# EAGLE library part 292303-1 (library SamacSys_Parts)
USB type A r/a thru-hole socket Source: Datasheet <https://datasheet.datasheetarchive.com/originals/distributors/Datasheets_SAMA/3e4c4de204b167d1a9250e6de251b7b8.pdf>
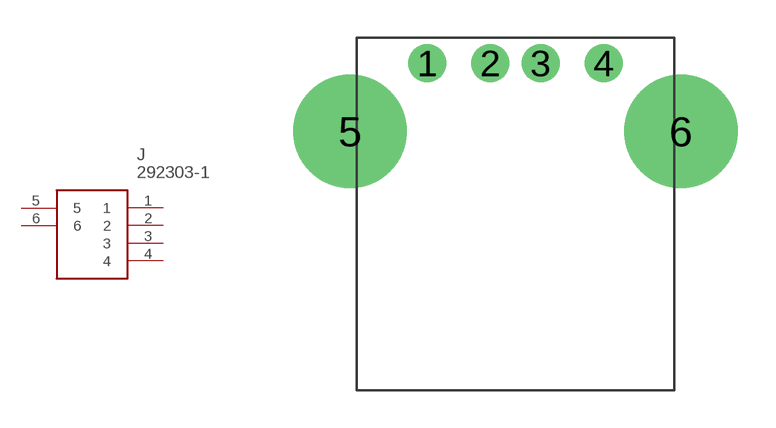
[diagram p101: symbol with the pads of TECONN-4POS-USB; footprint TECONN-4POS-USB]

Designator prefix J

## 292303-1 (DESCRIPTION: USB type A r/a thru-hole socket; HEIGHT: mm; MANUFACTURER_NAME: TE Connectivity; MANUFACTURER_PART_NUMBER: 292303-1; MOUSER_PART_NUMBER: 571-292303-1; MOUSER_PRICE-STOCK: https://www.mouser.co.uk/ProductDetail/TE-Connectivity/292303-1?qs=G%2F5vCLrg9vx2OsUPTgR%2F%252BQ%3D%3D)  [TECONN-4POS-USB]
1  1
2  2
3  3
4  4
5  5
6  6

## Footprint TECONN-4POS-USB (pad centres in mm)
292303
drill 1 pad 1.5: 1 0,0; 2 2.5,0; 3 4.5,0; 4 7,0
drill 3.1 pad 4.5: 5 -3.07,-2.71; 6 10.07,-2.71